# Altium integrated library TL431CPKG3.IntLib: 1 symbol
Pins are listed as number, name and electrical type; pins without a type are passive.

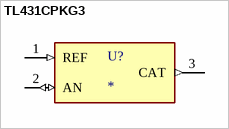
[diagram p0: symbol TL431CPKG3]

## TL431CPKG3
designator U?
Adjustable precision shunt regulator 3-SOT-89 0 to 70; MP: TL431CPKG3; MF: Texas Instruments; Price: None; SnapEDA_Link: https://www.snapeda.com/parts/TL431CPKG3/Texas+Instruments/view-part/?ref=snap; Check_prices: https://www.snapeda.com/parts/TL431CPKG3/Texas+Instruments/view-part/?ref=eda; Availability: In Stock; Value: *; Purchase-URL: https://pricing.snapeda.com/search/part/TL431CPKG3/?ref=eda; Package: SOT-89-3 Texas Instruments
footprint VREG_TL431CPKG3
pins: 1 REF (in), 2 AN (io), 3 CAT (out)